# Altium footprint library CAP's.PcbLib: 41 footprints (part 1 of 3)
Each footprint in its own frame and in the unit in brackets; x right, y up, seen from the top. Pads: shape width x height; smd on the part's side, far side on the other; paste and mask are expansions set on the pad; w line width, h text height; cw(c..) or ccw(c..) is an arc to the next point about the centre after c.
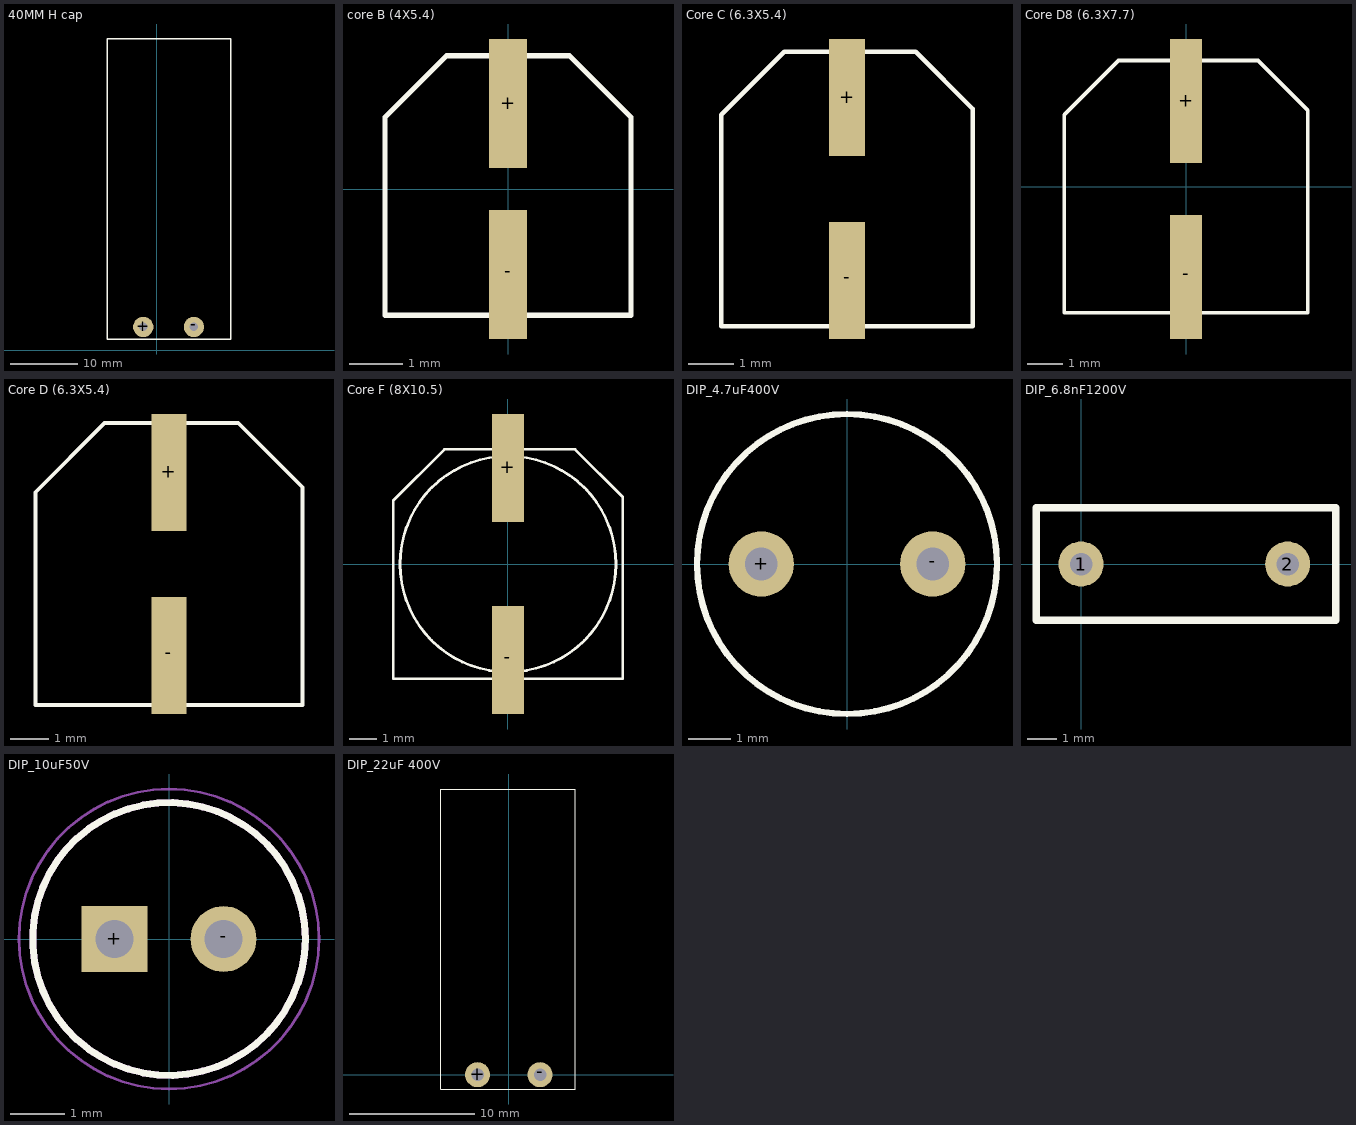
[diagram p0: the footprints below, top view; thin cyan lines are the x and y axes]

## 40MM CAP [mm]

## 40MM H cap [mm]
pads (2):
  round 3 hole 1.25: +(-2.032,3.429) -(5.461,3.429)
Top Overlay:
  lines w0.2: -7.366,1.651 -7.366,45.974 10.922,45.974 10.922,1.651 -7.366,1.651
3D body "cap_el_horizontal_d18_h40_pitch7.5_w0.8.stp": height 18.09, standoff -3, extent -7.215,3.048 10.795,45.858

## core B (4X5.4) [mm]
pads (2):
  rect 0.7x2.4 smd: +(0,1.587) -(0,-1.587)
Top Overlay:
  lines w0.1: -2.286,-2.349 -2.286,1.333 -1.143,2.476 1.143,2.476 2.286,1.333 2.286,-2.349 -2.286,-2.349
3D body "User Library-capacitor size B (1).step": height 5.41, standoff -0.01, extent -2.159,-2.236 2.141,2.363

## Core C (6.3X5.4) [mm]
pads (2):
  rect 0.8x2.6 smd: +(10.033,-30.48) -(10.033,-34.544)
Top Overlay:
  lines w0.1: 7.239,-35.56 7.239,-30.861 8.636,-29.464 11.557,-29.464 12.827,-30.734 12.827,-35.56 7.239,-35.56
3D body "User Library-capacitor size C.step": height 5.41, standoff -0.01, extent 7.383,-35.462 12.683,-29.562

## Core D8 (6.3X7.7) [mm]
pads (2):
  rect 0.9x3.5 smd: +(0,2.413) -(0,-2.548)
Top Overlay:
  lines w0.1: -3.429,-3.556 3.429,-3.556 3.429,2.159 2.032,3.556 -1.905,3.556 -3.429,2.032 -3.429,-3.556
3D body "User Library-capacitor size D8.step": height 7.71, standoff -0.01, extent -3.3,-3.429 3.3,3.571

## Core D (6.3X5.4) [mm]
pads (2):
  rect 0.9x3 smd: +(-104.267,-405.257) -(-104.267,-409.956)
Top Overlay:
  lines w0.1: -107.696,-411.226 -107.696,-405.765 -105.918,-403.987 -102.489,-403.987 -100.838,-405.638 -100.838,-411.226 -107.696,-411.226
3D body "User Library-capacitor size D (1).step": height 5.41, standoff -0.01, extent -107.567,-411.114 -100.967,-404.114

## Core E (8X6.2) [mm]
3D body "User Library-capacitor size E.step": height 6.2, standoff -0.01, extent -2.118,-0.309 6.182,8.691

## Core F (8X10.5) [mm]
pads (2):
  rect 1.2x4 smd: +(0,3.556) -(0,-3.556)
Top Overlay:
  circle w0.1: c0,-0.002 r4
  lines w0.1: 2.05,-4.252 2.1,-4.252 ; -4.25,-4.252 -4.25,2.354 -2.356,4.248 2.483,4.248 4.25,2.481 4.25,-4.252 -4.25,-4.252
3D body "User Library-capacitor size F.step": height 10.21, standoff -0.01, extent -4.109,-4.947 4.191,4.953

## Core G (10X10.2) [mm]
3D body "User Library-capacitor size G.step": height 10.21, standoff -0.01, extent -5.15,-5.8 5.15,5.8

## Core H13 [mm]
3D body "User Library-capacitor size H13.step": height 13.5, standoff -0.01, extent -4.718,1.355 8.782,15.155

## Core J16 [mm]
3D body "User Library-capacitor size J16.step": height 16.5, standoff -0.01, extent -6.468,-4.659 10.532,13.041

## Core K16 [mm]
3D body "User Library-capacitor size K16.step": height 16.5, standoff -0.01, extent -3.277,-10.05 15.723,10.05

## DIP_4.7uF400V [mil]
pads (2):
  round 60 hole 30: +(-78.74,0) -(78.74,0)
Top Overlay:
  circle w5.91: c0,0 r137.8

## DIP_6.8nF1200V [mil]
pads (2):
  round 60 hole 30: 1(0,0) 2(275.59,0)
Top Overlay:
  lines w10: -60,-75 340,-75 340,75 -60,75 -60,-75

## DIP_10uF50V [mm]
pads (2):
  rect 1.208x1.208 hole 0.7: +(-1,0)
  round 1.208 hole 0.7: -(1,0)
Top Overlay:
  circle w0.127: c0,0 r2.5
Mechanical 13:
  circle w0.127: c0,0 r2.5
Mechanical 15:
  circle w0.05: c0,0 r2.75

## DIP_22uF 400V [mm]
pads (2):
  round 2 hole 1: +(-2.5,0) -(2.5,0)
Top Overlay:
  lines w0.05: -5.461,-1.143 -5.461,22.86 5.334,22.86 5.334,-1.143 -5.461,-1.143
3D body "DIP_cap right 2.step": height 11.7, standoff -1.5, extent -5.194,-0.424 5.207,22.776